# EAGLE library part 255-406-5 (library con-wago255)
WAGO
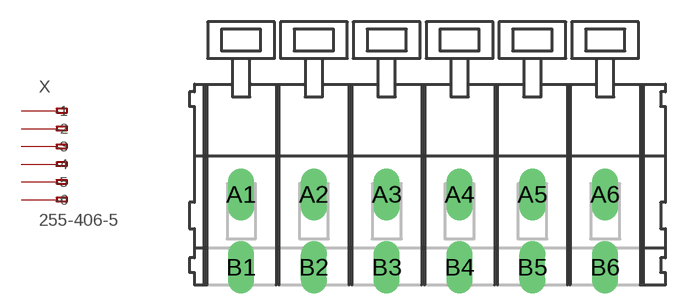
[diagram p64: symbol with the pads of 255-406-5; footprint 255-406-5]

Designator prefix X

## 255-406-5 (OC_FARNELL: unknown; OC_NEWARK: unknown)  [255-406-5]
A1  -1  pas
A2  -2  pas
A3  -3  pas
A4  -4  pas
A5  -5  pas
A6  -6  pas
B1  B-1  pas
B2  B-2  pas
B3  B-3  pas
B4  B-4  pas
B5  B-5  pas
B6  B-6  pas

## Footprint 255-406-5 (pad centres in mm)
Grid 5.0 mm
drill 1.2 long: A1 -12.5,0; A2 -7.5,0; A3 -2.5,0; A4 2.5,0; A5 7.5,0; A6 12.5,0; B1 -12.5,-5; B2 -7.5,-5; B3 -2.5,-5; B4 2.5,-5; B5 7.5,-5; B6 12.5,-5